# Altium footprint library CAP.PcbLib: 4 footprints
Each footprint in its own frame and in the unit in brackets; x right, y up, seen from the top. Pads: shape width x height; smd on the part's side, far side on the other; paste and mask are expansions set on the pad; w line width, h text height; cw(c..) or ccw(c..) is an arc to the next point about the centre after c.
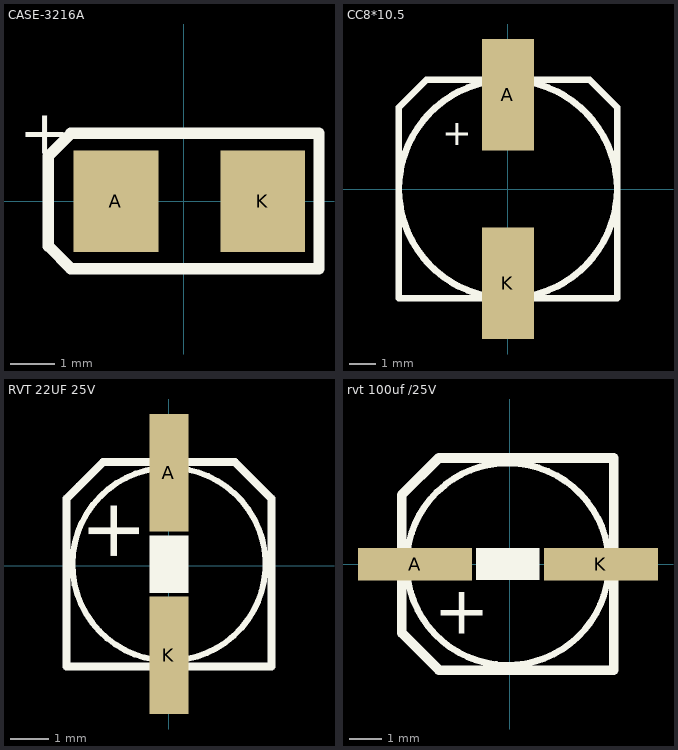
[diagram p0: the footprints below, top view; thin cyan lines are the x and y axes]

## CASE-3216A [mil]
pads (2):
  rect 75x90 smd: A(-60,0) K(70,0)
Top Overlay:
  lines w10: -120,-40 -120,40 -100,60 120,60 120,-60 -100,-60 -120,-40
  text "+" at -146,42 h39.37

## CC8*10.5 [mm]
pads (2):
  rect 2x4.3 smd: A(0,3.627) K(0,-3.627)
Top Overlay:
  circle w0.254: c0,0 r4.2
  lines w0.254: 3.15,4.2 -3.15,4.2 -4.2,3.15 -4.2,-4.2 4.2,-4.2 4.2,3.15 3.15,4.2 ; 3.15,4.2 3.15,4.2
  text "+" at -2.54,1.676 h1
3D body: height 10.5, standoff 0, extent -4.216,-4.115 4.15,4.269

## RVT 22UF 25V [mil]
pads (2):
  rect 40x120 smd: A(0,95) K(0,-91)
Top Overlay:
  region: -19.68,30.96 -19.69,-27.37 19.69,-27.37 19.69,30.96
  lines w6: 48.63,-83.81 cw(c0,1.76) 48.8,-83.71
  lines w8: -104.49,-102.58 104.49,-102.58 ; -104.47,-102.57 -104.47,68.66 -104.49,68.68 -67.15,106.02 ; -91.72,81.45 -67.15,106.02 ; 104.57,-102.5 104.57,68.66 104.54,68.69 67.21,106.02 -67.15,106.02
  text "+" at -82,70 h60
3D body: height 204.72, standoff 0, extent -103.66,-110.24 105,110.24

## rvt 100uf /25V [mil]
pads (2):
  rect 140x40 smd: A(-116,0) K(112,0)
Top Overlay:
  rectangle: -41.24,-19.54 36.85,19.67
  lines w8: 113.11,45.5 ccw(c-2.28,0.06) 113.13,45.45
  lines w12: -86.9,-130.03 -132.2,-84.72 -132.2,85.17 -86.9,130.47 ; -86.8,-130.13 127.64,-130.13 127.64,130.27 -86.69,130.27
  text "+" at -93.06,-85.18 h60
3D body: height 204.72, standoff 0, extent -142.8,-129.84 132.8,130